# Altium footprint library GNSS.PcbLib: 23 footprints (part 1 of 2)
Each footprint in its own frame and in the unit in brackets; x right, y up, seen from the top. Pads: shape width x height; smd on the part's side, far side on the other; paste and mask are expansions set on the pad; w line width, h text height; cw(c..) or ccw(c..) is an arc to the next point about the centre after c.
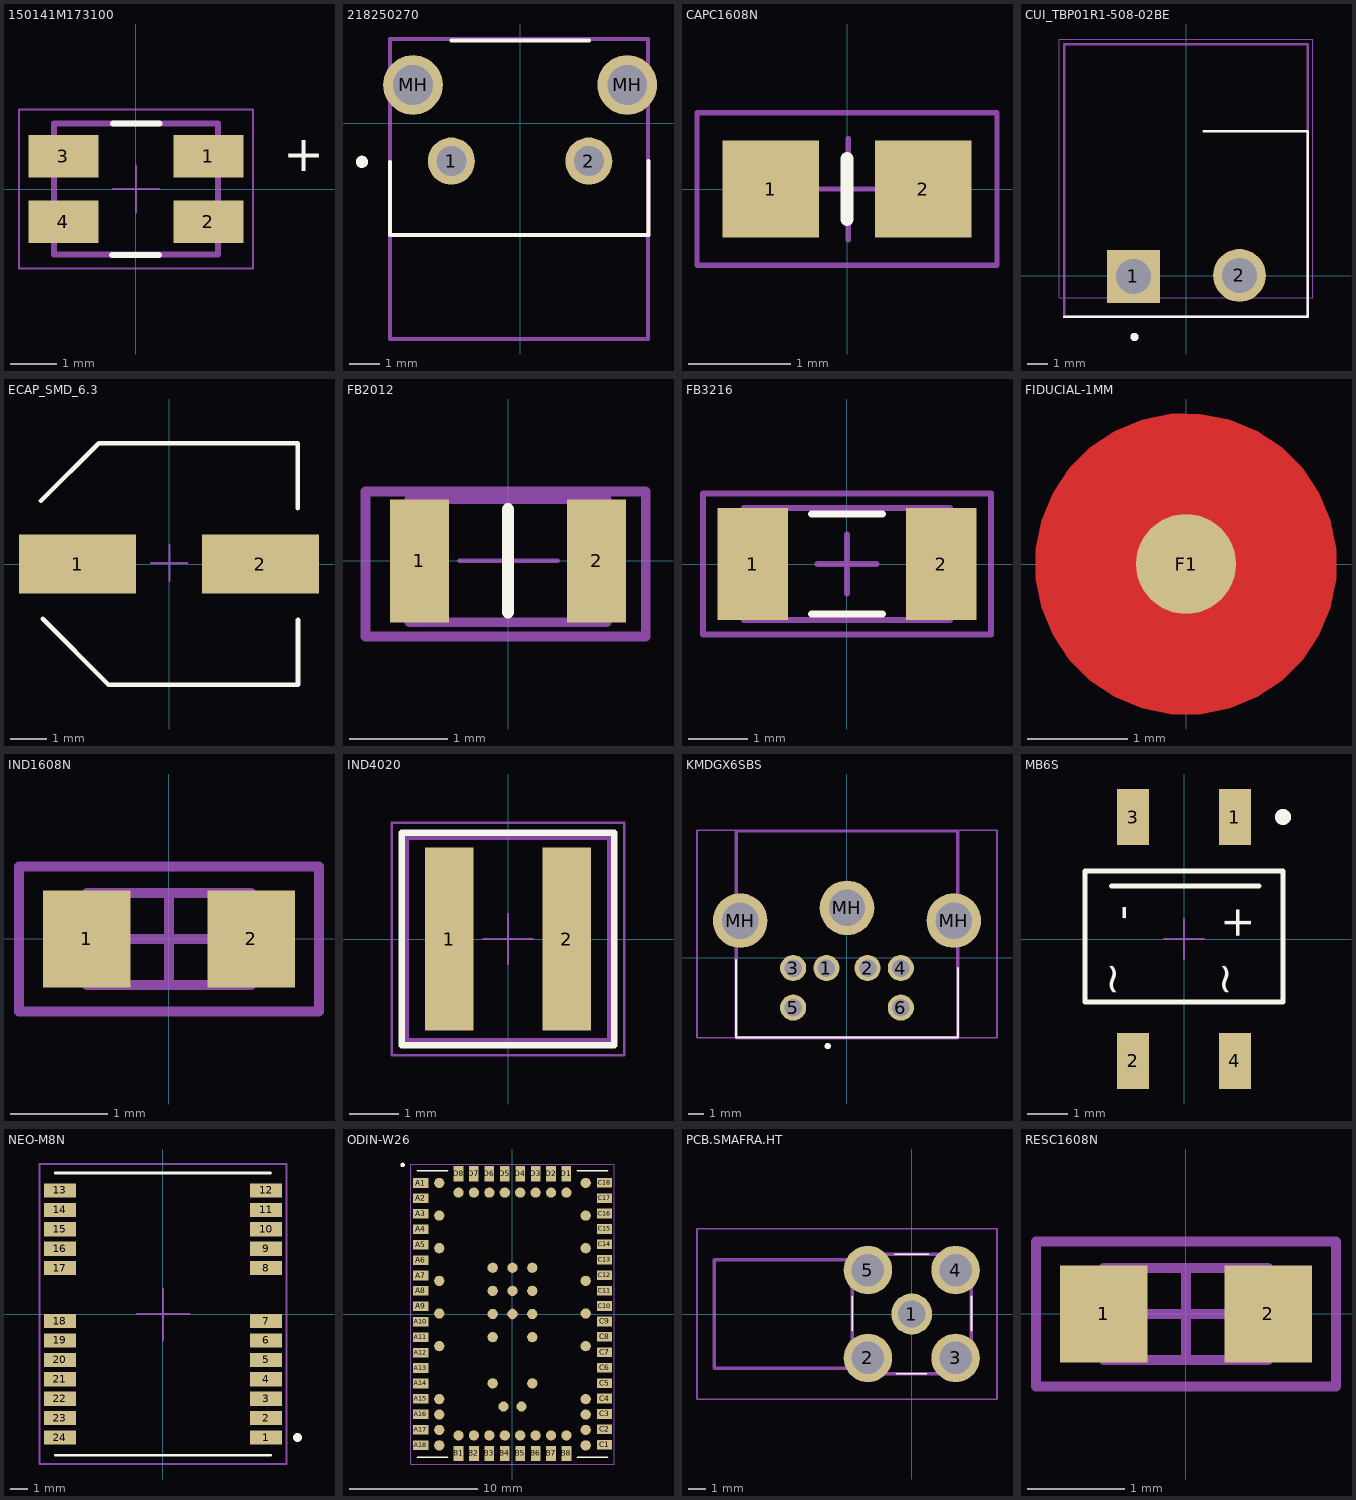
[diagram p0: the footprints below, top view; thin cyan lines are the x and y axes]

## 150141M173100 [mm]
height 2.1
pads (4):
  rect 1.5x0.9 smd: 1(1.55,0.7) 2(1.55,-0.7) 3(-1.55,0.7) 4(-1.55,-0.7)
Top Overlay:
  lines w0.127: -0.509,-1.407 0.491,-1.407 ; -0.493,1.403 0.507,1.403
  text "+" at 3.15,0.375 h0.76
Mechanical 13:
  lines w0.127: -1.75,-1.4 -1.75,1.4 1.75,1.4 1.75,-1.4 -1.75,-1.4
Mechanical 15:
  lines w0.05: -0.5,0 0.5,0 ; 0,-0.5 0,0.5 ; -2.5,-1.7 2.5,-1.7 2.5,1.7 -2.5,1.7 -2.5,-1.7
3D body "150141xxx.stp": height 1.9, standoff 0, extent -1.75,-1.4 1.75,1.4

## 218250270 [mm]
pads (4):
  round 1.54 hole 0.99: 1(-2.25,-1.245) 2(2.25,-1.245)
  round 1.95 hole 1.3: MH(-3.505,1.245) MH(3.505,1.245)
Top Overlay:
  circle w0.2: c-5.175,-1.27 r0.1
  lines w0.127: -4.254,-1.27 -4.254,-3.67 -4.175,-3.67 4.2,-3.67 4.2,-1.245 ; -2.25,2.697 2.25,2.697
Mechanical 15:
  lines w0.127: -4.254,-7.067 -4.254,-6.918 -4.254,2.749 4.189,2.749 4.189,-7.067 -4.254,-7.067
3D body "c-1825027-8-g-3d.STEP": height 7, standoff -3.52, extent -4.261,-7.067 4.147,2.776

## CAPC1608N [mm]
pads (2):
  rrect0% 0.95x0.95 smd: 1(-0.75,0) 2(0.75,0)
Top Overlay:
  lines w0.127: 0,-0.3 0,0.3
Mechanical 15:
  lines w0.05: -0.487,-0.002 0.513,-0.002 ; 0.013,-0.502 0.013,0.498 ; -1.475,-0.75 1.475,-0.75 1.475,0.75 -1.475,0.75 -1.475,-0.75
3D body "CAPC0603.STEP": height 0.81, standoff 0.01, extent -1.05,-0.525 1.05,0.504

## CUI_TBP01R1-508-02BE [mm]
pads (2):
  rect 2.55x2.55 hole 1.7: 1(-2.562,-0.025)
  round 2.55 hole 1.7: 2(2.563,0.025)
Top Overlay:
  circle w0.2: c-2.512,-2.95 r0.1
  lines w0.127: -5.903,-1.975 5.858,-1.975 5.858,7 0.85,7
Mechanical 13:
  lines w0.127: -5.903,-1.975 -5.903,11.2 5.858,11.2 5.858,-1.975 -5.903,-1.975
Mechanical 15:
  lines w0.05: -6.152,-1.05 6.108,-1.05 6.108,11.45 -6.152,11.45 -6.152,-1.05
3D body "Assem1.STEP": height 15.08, standoff -3.92, extent -5.813,-1.932 5.947,20.732

## ECAP_SMD_6.3 [mm]
pads (2):
  rect 3.2x1.6 smd: 1(-2.5,0) 2(2.5,0)
Top Overlay:
  lines w0.127: -3.5,1.725 -1.925,3.3 3.52,3.3 3.52,1.524 ; -3.455,-1.499 -1.654,-3.3 3.525,-3.3 3.525,-1.524
Mechanical 15:
  lines w0.05: -0.49,0.027 0.51,0.027 ; 0.01,-0.473 0.01,0.527
3D body "CAPSMD6_3x3_9.STEP": height 3.91, standoff 0, extent -3.48,-3.3 3.52,3.3

## FB2012 [mm]
pads (2):
  rect 0.6x1.25 smd: 1(-0.9,0) 2(0.9,0)
Top Overlay:
  lines w0.127: 0,-0.525 0,0.525
Mechanical 13:
  lines w0.1: -1,-0.625 -1,0.625 1,0.625 1,-0.625 -1,-0.625
Mechanical 15:
  lines w0.05: -0.494,0 0.506,0 ; 0.006,-0.5 0.006,0.5
  lines w0.1: -1.449,-0.769 -1.449,0.704 1.4,0.704 1.4,-0.769 -1.449,-0.769
3D body "User Library-User Library-0805_Res1.STEP": height 0.8, standoff 0, extent -1.4,-0.625 1.4,0.625

## FB3216 [mm] "Chip Inductor, Body 3.2x1.6mm, IPC Medium Density"
height 1.9
pads (2):
  rect 1.2x1.9 smd: 1(-1.6,0) 2(1.6,0)
Top Overlay:
  lines w0.127: -0.6,-0.85 0.6,-0.85 ; -0.6,0.85 0.6,0.85
Mechanical 13:
  lines w0.1: -1.75,-0.95 -1.75,0.95 1.75,0.95 1.75,-0.95 -1.75,-0.95
Mechanical 15:
  lines w0.1: -0.5,0 0.5,0 ; 0,-0.5 0,0.5 ; -2.45,-1.2 -2.45,1.2 2.45,1.2 2.45,-1.2 -2.45,-1.2
3D body "CAPC1206.STEP": height 1.3, standoff -0.01, extent -1.974,-0.976 1.975,0.976

## FIDUCIAL-1MM [mm] "1MM FIDUCAL MARKER"
pads (1):
  round 1 smd paste-1 mask+0.5: F1(0,0)
Top Layer:
  pour cut-out: -1.5,0 -1.5,-0.148 -1.442,-0.438 -1.329,-0.711 -1.165,-0.956 -0.956,-1.165 -0.711,-1.329 -0.438,-1.442 -0.148,-1.5 0,-1.5 0.148,-1.5 0.438,-1.442 0.711,-1.329 0.956,-1.165 1.165,-0.956 1.329,-0.711 1.442,-0.438 1.5,-0.148 1.5,0 1.5,0.148 1.442,0.438 1.329,0.711 1.165,0.956 0.956,1.165 0.711,1.329 0.438,1.442 0.148,1.5 0,1.5 -0.148,1.5 -0.438,1.442 -0.711,1.329 -0.956,1.165 -1.165,0.956 -1.329,0.711 -1.442,0.438 -1.5,0.148

## IND1608N [mm] "Chip Resistor, Body 1.6x0.8mm, IPC Medium Density"
height 0.6
pads (2):
  rect 0.9x1 smd: 1(-0.85,0) 2(0.85,0)
Mechanical 13:
  lines w0.1: -0.85,-0.475 0.85,-0.475 0.85,0.475 -0.85,0.475 -0.85,-0.475
Mechanical 15:
  lines w0.1: -0.475,0 0.475,0 ; 0,-0.475 0,0.475 ; -1.55,-0.75 1.55,-0.75 1.55,0.75 -1.55,0.75 -1.55,-0.75
3D body "0603S1.STEP": height 0.43, standoff -0.02, extent -0.988,-0.45 0.988,0.529

## IND4020 [mm] "SMT Shielded Power Inductor, body 4.1x4.1mm"
height 2.1
pads (2):
  rect 0.98x3.7 smd: 1(-1.185,0) 2(1.185,0)
Top Overlay:
  lines w0.127: -2.15,-2.15 2.15,-2.15 2.15,2.15 -2.15,2.15 -2.15,-2.15
Mechanical 13:
  lines w0.1: -2.05,-2.05 -2.05,2.05 2.05,2.05 2.05,-2.05 -2.05,-2.05
Mechanical 15:
  lines w0.05: -0.5,0 0.5,0 ; 0,-0.5 0,0.5 ; -2.35,-2.35 -2.35,2.35 2.35,2.35 2.35,-2.35 -2.35,-2.35
3D body "WE-IndMAPI_SSMC-4020.stp": height 2.1, standoff 0, extent -2.05,-2.05 2.05,2.05

## KMDGX6SBS [mm]
pads (9):
  round 1.65 hole 1.1: 1(-1.3,-0.65) 2(1.3,-0.65) 3(-3.4,-0.65) 4(3.4,-0.65) 5(-3.4,-3.15) 6(3.4,-3.15)
  round 3.45 hole 2.3: MH(-6.75,2.35) MH(0,3.15) MH(6.75,2.35)
Top Overlay:
  circle w0.2: c-1.215,-5.576 r0.1
  lines w0.127: -7,-0.15 -7,-5.05 7,-5.05 7,-0.65
Mechanical 13:
  lines w0.2: -7,-5.05 -7,8 7,8 7,-5.05 -7,-5.05
Mechanical 15:
  lines w0.1: -9.475,-5.05 -9.475,8.05 9.475,8.05 9.475,-5.05 -9.475,-5.05
3D body "5749231-1.STEP": height 13, standoff -3.86, extent -7.125,-4.875 6.875,7.952

## MB6S [mm]
pads (4):
  rect 0.8x1.4 smd mask+0: 1(1.27,3.05) 2(-1.27,-3.05) 3(-1.27,3.05) 4(1.27,-3.05)
Top Overlay:
  circle w0.2: c2.475,3.05 r0.1
  lines w0.127: -1.808,1.325 1.875,1.325 ; -2.475,-1.575 -2.475,1.7 2.475,1.7 2.475,-1.575 -2.475,-1.575
  text "~" at -2.109,-0.566 h0.76
  text "~" at 0.71,-0.566 h0.76
  text "-" at -1.777,0.843 h0.76
  text "+" at 1.017,0.843 h0.76
Mechanical 15:
  lines w0.05: -0.502,0.003 0.498,0.003 ; -0.002,-0.497 -0.002,0.503
3D body "User Library-TO-269AA_jam.step": height 2.7, standoff 0, extent -2.475,-3.52 2.475,3.52

## NEO-M8N [mm]
pads (24):
  rect 1.8x0.8 smd paste-0.1: 1(5.842,-7) 2(5.842,-5.9) 3(5.842,-4.8) 4(5.842,-3.7) 5(5.842,-2.6) 6(5.842,-1.5) 7(5.842,-0.4) 8(5.842,2.6) 9(5.842,3.7) 10(5.842,4.8) 11(5.842,5.9) 12(5.842,7) 13(-5.842,7) 14(-5.842,5.9) 15(-5.842,4.8) 16(-5.842,3.7) 17(-5.842,2.6) 18(-5.842,-0.4) 19(-5.842,-1.5) 20(-5.842,-2.6) 21(-5.842,-3.7) 22(-5.842,-4.8) 23(-5.842,-5.9) 24(-5.842,-7)
Top Overlay:
  circle w0.38: c7.625,-7 r0.058
  lines w0.16: -6.109,-8 6.096,-8 ; -6.109,7.996 6.09,7.996
Top Paste:
  rectangle: 5.642,-7.4 6.842,-6.6
  rectangle: 5.642,-6.3 6.842,-5.5
  rectangle: 5.642,-5.2 6.842,-4.4
  rectangle: 5.642,-4.1 6.842,-3.3
  rectangle: 5.642,-3 6.842,-2.2
  rectangle: 5.642,-1.9 6.842,-1.1
  rectangle: 5.642,-0.8 6.842,0
  rectangle: 5.642,2.2 6.842,3
  rectangle: 5.642,3.3 6.842,4.1
  rectangle: 5.642,4.4 6.842,5.2
  rectangle: 5.642,5.5 6.842,6.3
  rectangle: 5.642,6.6 6.842,7.4
  rectangle: -6.833,6.6 -5.633,7.4
  rectangle: -6.833,5.5 -5.633,6.3
  rectangle: -6.833,4.4 -5.633,5.2
  rectangle: -6.833,3.3 -5.633,4.1
  rectangle: -6.833,2.2 -5.633,3
  rectangle: -6.833,-0.8 -5.633,0
  rectangle: -6.833,-1.9 -5.633,-1.1
  rectangle: -6.833,-3 -5.633,-2.2
  rectangle: -6.833,-5.2 -5.633,-4.4
  rectangle: -6.833,-6.3 -5.633,-5.5
  rectangle: -6.833,-7.4 -5.633,-6.6
  rectangle: -6.833,-4.1 -5.633,-3.3
Mechanical 15:
  lines w0.1: -1.499,0 0,0 ; 0,-1.519 0,0 ; 0,1.445 0,0 ; 1.501,0 0,0 ; -7,-8.5 7,-8.5 7,8.5 -7,8.5 -7,-8.5
3D body "NEO (STEP-AP214)_B.STEP": height 2.28, standoff -0.05, extent -6.104,-8 6.096,8

## ODIN-W26 [mm] "ODIN-W262 WiFi/BT  module"
pads (103):
  rect 1.19x0.75 smd mask+0.05: A1(-7.147,10.196) A2(-7.147,8.996) A3(-7.147,7.796) A4(-7.147,6.596) A5(-7.147,5.396) A6(-7.147,4.196) A7(-7.147,2.996) A8(-7.147,1.796) A9(-7.147,0.596) A10(-7.147,-0.604) A11(-7.147,-1.804) A12(-7.147,-3.004) A13(-7.147,-4.204) A14(-7.147,-5.404) A15(-7.147,-6.604) A16(-7.147,-7.804) A17(-7.147,-9.004) A18(-7.147,-10.204) C1(7.165,-10.18) C2(7.165,-8.98) C3(7.165,-7.78) C4(7.165,-6.58) C5(7.165,-5.38) C6(7.165,-4.18) C7(7.165,-2.98) C8(7.165,-1.78) C9(7.165,-0.58) C10(7.165,0.62) C11(7.165,1.82) C12(7.165,3.02) C13(7.165,4.22) C14(7.165,5.42) C15(7.165,6.62) C16(7.165,7.82) C17(7.165,9.02) C18(7.165,10.22)
  rect 0.75x1.19 smd mask+0.05: B1(-4.2,-10.85) B2(-3,-10.85) B3(-1.8,-10.85) B4(-0.6,-10.85) B5(0.6,-10.85) B6(1.8,-10.85) B7(3,-10.85) B8(4.2,-10.85) D1(4.198,10.919) D2(2.998,10.919) D3(1.798,10.919) D4(0.598,10.919) D5(-0.602,10.919) D6(-1.802,10.919) D7(-3.002,10.919) D8(-4.202,10.919)
  round 0.8 smd mask+0.05: GND(-5.7,-10.225) GND(-5.7,-9.025) GND(-5.7,-7.825) GND(-5.7,-6.625) GND(-4.2,-9.45) GND(-4.2,9.45) GND(-3,-9.45) GND(-3,9.45) GND(-1.8,-9.45) GND(-1.8,9.45) GND(-1.54,-5.4) GND(-1.54,-1.8) GND(-1.54,0) GND(-1.54,1.8) GND(-1.54,3.6) GND(-0.7,-7.2) GND(-0.6,-9.45) GND(-0.6,9.45) GND(0,0) GND(0,1.8) GND(0,3.6) GND(0.6,-9.45) GND(0.6,9.45) GND(0.7,-7.2) GND(1.54,-5.4) GND(1.54,-1.8) GND(1.54,0) GND(1.54,1.8) GND(1.54,3.6) GND(1.8,-9.45) GND(1.8,9.45) GND(3,-9.45) GND(3,9.45) GND(4.2,-9.45) GND(4.2,9.45) GND(5.7,-10.225) GND(5.7,-9.025) GND(5.7,-7.825) GND(5.7,-6.625) TP1(-5.7,-2.5) TP2(5.7,-2.5) TP3(-5.7,0.04) TP4(5.7,0.04) TP5(-5.7,2.58) TP6(5.7,2.58) TP7(-5.7,5.12) TP8(5.7,5.12) TP9(-5.7,7.66) TP10(5.7,7.66) TP11(-5.7,10.2) TP12(5.7,10.2)
Top Overlay:
  lines w0.15: -7.4,11.15 -7.4,11.15 -5.05,11.15 ; -5.05,-11.15 -7.4,-11.15 ; 5.05,-11.15 7.4,-11.15 ; 5.05,11.15 7.4,11.15 7.4,11.15 ; -7.4,-11.15 -7.4,-11.15 ; 7.4,-11.15 7.4,-11.15
  lines w0.2: -8.48,11.621 ccw(c-8.55,11.6) -8.477,11.593
Mechanical 15:
  lines w0.05: -7.925,-11.675 7.925,-11.675 7.925,11.675 -7.925,11.675 -7.925,-11.675
  lines w0.1: -0.5,0 0,0 0.5,0 ; 0,-0.5 0,0.5
3D body "ODIN-W262 Module.stp": height 4.47, standoff -0.02, extent -7.4,-11.15 7.4,11.15

## PCB.SMAFRA.HT [mm]
pads (5):
  round 2.4 hole 1.6: 1(0,0)
  round 2.85 hole 1.9: 2(-2.575,-2.575) 3(2.575,-2.575) 4(2.575,2.575) 5(-2.575,2.575)
Top Overlay:
  lines w0.1: -3.5,-0.975 -3.5,1.025 ; -1,3.5 1,3.5 ; -0.896,-3.5 0.872,-3.5 ; 3.5,-0.975 3.5,1.025
Bottom Overlay:
  circle w0.2: c1.925,0.225 r0.1
Mechanical 13:
  lines w0.2: -3.5,-3.175 -11.6,-3.175 -11.6,3.175 -3.5,3.175 ; -3.5,-3.5 -3.5,3.5 3.5,3.5 3.5,-3.5 -3.5,-3.5
Mechanical 15:
  lines w0.1: -12.6,-5 -12.6,5 5,5 5,-5 -12.6,-5
3D body "PCB.SMAFRA.HT_Web.STEP": height 8.42, standoff -5.35, extent -11.484,-3.543 3.616,3.457

## RESC1608N [mm] "Chip Resistor, Body 1.6x0.8mm, IPC Medium Density"
height 0.6
pads (2):
  rect 0.9x1 smd: 1(-0.85,0) 2(0.85,0)
Mechanical 13:
  lines w0.1: -0.85,-0.475 0.85,-0.475 0.85,0.475 -0.85,0.475 -0.85,-0.475
Mechanical 15:
  lines w0.1: -0.475,0 0.475,0 ; 0,-0.475 0,0.475 ; -1.55,-0.75 1.55,-0.75 1.55,0.75 -1.55,0.75 -1.55,-0.75
3D body "0603S1.STEP": height 0.43, standoff -0.02, extent -0.988,-0.45 0.988,0.529